# Altium schematic symbol library SCH - SOC - AMD - XILINX XC7Z020CLG484.SchLib: 1 symbol
Pins are listed as number, name and electrical type; pins without a type are passive.

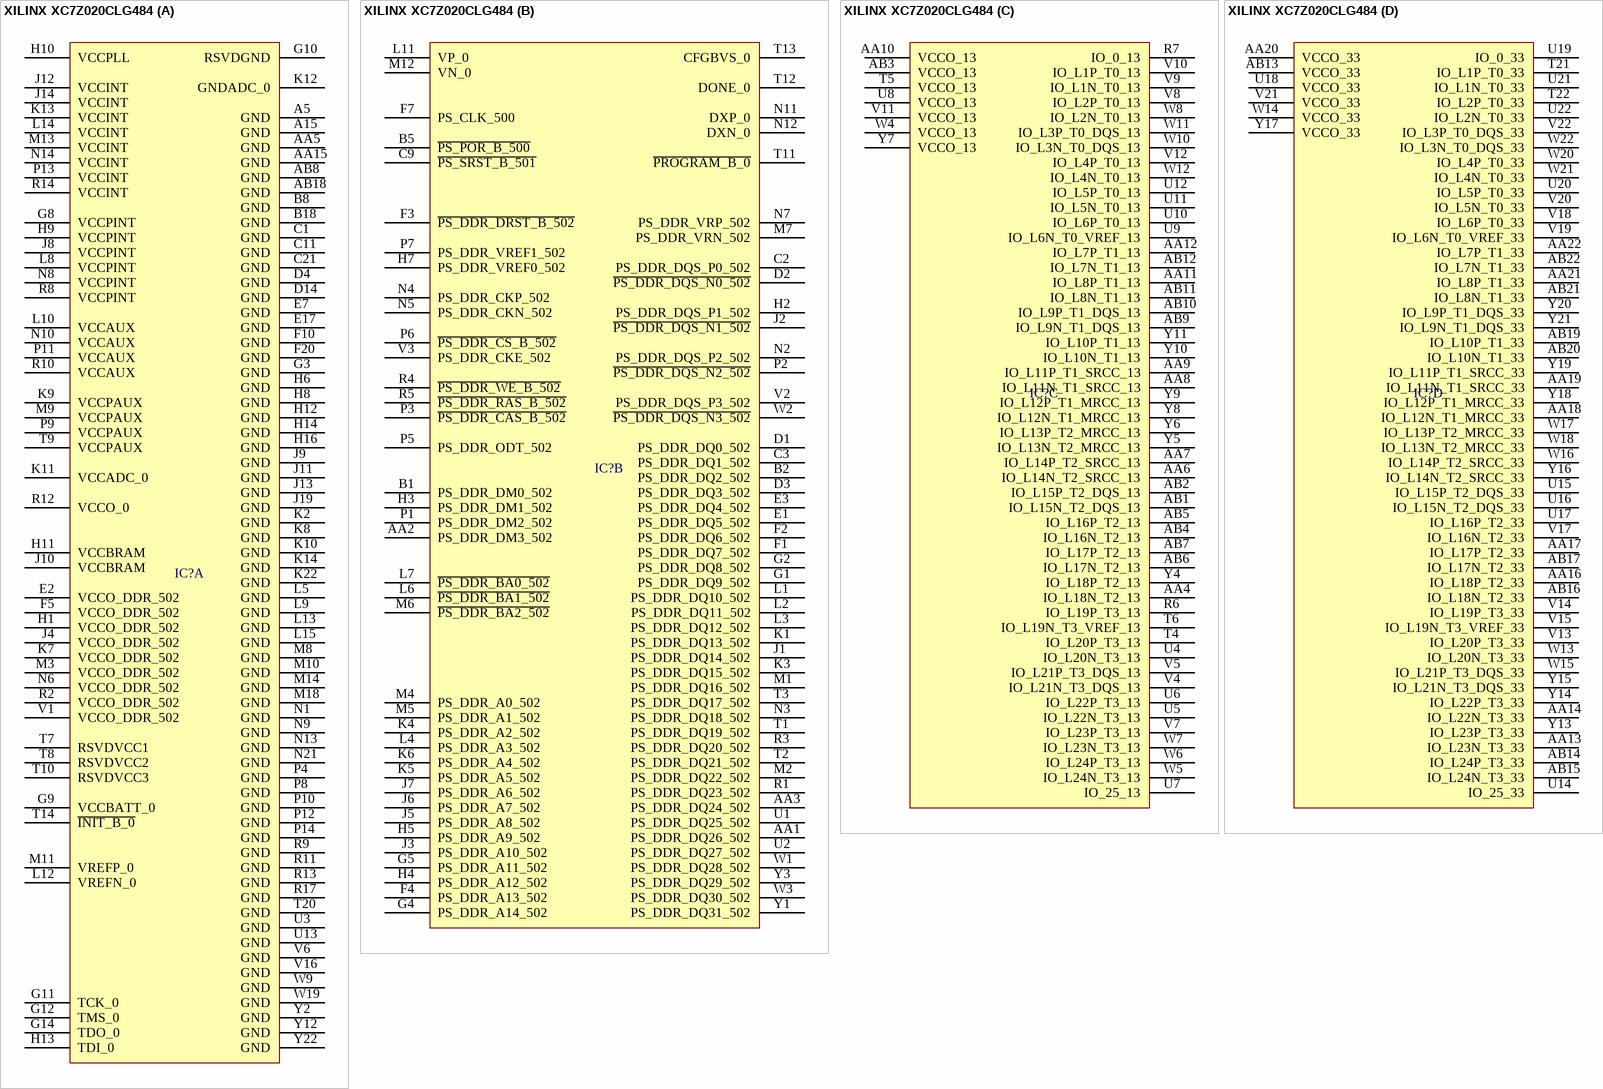
[diagram p0: symbol XILINX XC7Z020CLG484]

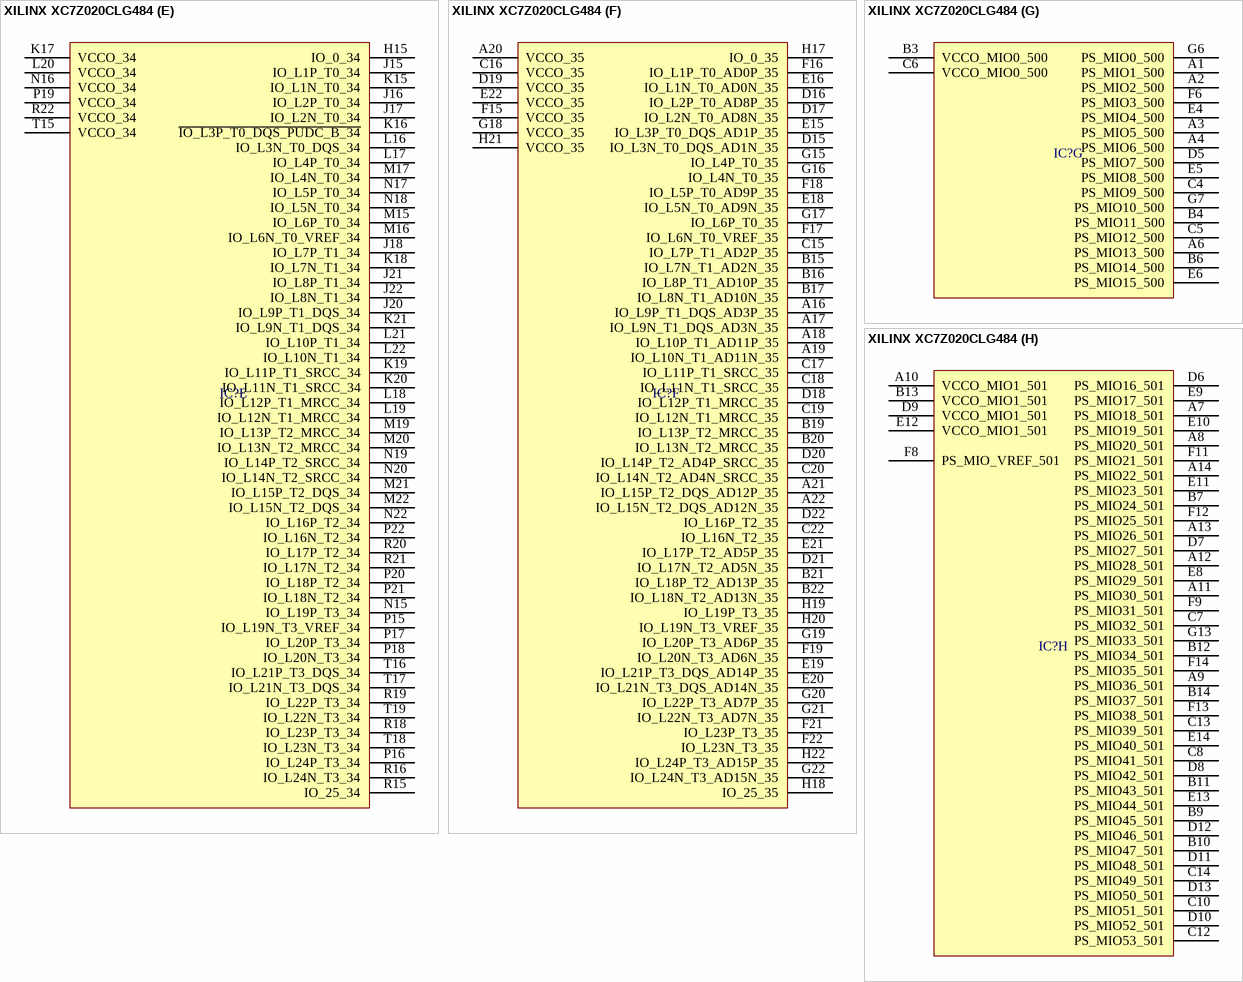
[diagram p1: symbol XILINX XC7Z020CLG484]

## XILINX XC7Z020CLG484
designator IC?
part A pins: A5 GND, A15 GND, AA5 GND, AA15 GND, AB8 GND, AB18 GND, B8 GND, B18 GND, C1 GND, C11 GND, C21 GND, D4 GND, D14 GND, E2 VCCO_DDR_502, E7 GND, E17 GND, F5 VCCO_DDR_502, F10 GND, F20 GND, G3 GND, G8 VCCPINT, G9 VCCBATT_0, G10 RSVDGND, G11 TCK_0, G12 TMS_0, G14 TDO_0, H1 VCCO_DDR_502, H6 GND, H8 GND, H9 VCCPINT, H10 VCCPLL, H11 VCCBRAM, H12 GND, H13 TDI_0, H14 GND, H16 GND, J4 VCCO_DDR_502, J8 VCCPINT, J9 GND, J10 VCCBRAM, J11 GND, J12 VCCINT, J13 GND, J14 VCCINT, J19 GND, K2 GND, K7 VCCO_DDR_502, K8 GND, K9 VCCPAUX, K10 GND, K11 VCCADC_0, K12 GNDADC_0, K13 VCCINT, K14 GND, K22 GND, L5 GND, L8 VCCPINT, L9 GND, L10 VCCAUX, L12 VREFN_0, L13 GND, L14 VCCINT, L15 GND, M3 VCCO_DDR_502, M8 GND, M9 VCCPAUX, M10 GND, M11 VREFP_0, M13 VCCINT, M14 GND, M18 GND, N1 GND, N6 VCCO_DDR_502, N8 VCCPINT, N9 GND, N10 VCCAUX, N13 GND, N14 VCCINT, N21 GND, P4 GND, P8 GND, P9 VCCPAUX, P10 GND, P11 VCCAUX, P12 GND, P13 VCCINT, P14 GND, R2 VCCO_DDR_502, R8 VCCPINT, R9 GND, R10 VCCAUX, R11 GND, R12 VCCO_0, R13 GND, R14 VCCINT, R17 GND, T7 RSVDVCC1, T8 RSVDVCC2, T9 VCCPAUX, T10 RSVDVCC3, T14 ~{INIT_B_0}, T20 GND, U3 GND, U13 GND, V1 VCCO_DDR_502, V6 GND, V16 GND, W9 GND, W19 GND, Y2 GND, Y12 GND, Y22 GND
part B pins: AA1 PS_DDR_DQ26_502, AA2 PS_DDR_DM3_502, AA3 PS_DDR_DQ24_502, B1 PS_DDR_DM0_502, B2 PS_DDR_DQ2_502, B5 ~{PS_POR_B_500}, C2 PS_DDR_DQS_P0_502, C3 PS_DDR_DQ1_502, C9 ~{PS_SRST_B_501}, D1 PS_DDR_DQ0_502, D2 ~{PS_DDR_DQS_N0_502}, D3 PS_DDR_DQ3_502, E1 PS_DDR_DQ5_502, E3 PS_DDR_DQ4_502, F1 PS_DDR_DQ7_502, F2 PS_DDR_DQ6_502, F3 ~{PS_DDR_DRST_B_502}, F4 PS_DDR_A13_502, F7 PS_CLK_500, G1 PS_DDR_DQ9_502, G2 PS_DDR_DQ8_502, G4 PS_DDR_A14_502, G5 PS_DDR_A11_502, H2 PS_DDR_DQS_P1_502, H3 PS_DDR_DM1_502, H4 PS_DDR_A12_502, H5 PS_DDR_A9_502, H7 PS_DDR_VREF0_502, J1 PS_DDR_DQ14_502, J2 ~{PS_DDR_DQS_N1_502}, J3 PS_DDR_A10_502, J5 PS_DDR_A8_502, J6 PS_DDR_A7_502, J7 PS_DDR_A6_502, K1 PS_DDR_DQ13_502, K3 PS_DDR_DQ15_502, K4 PS_DDR_A2_502, K5 PS_DDR_A5_502, K6 PS_DDR_A4_502, L1 PS_DDR_DQ10_502, L2 PS_DDR_DQ11_502, L3 PS_DDR_DQ12_502, L4 PS_DDR_A3_502, L6 ~{PS_DDR_BA1_502}, L7 ~{PS_DDR_BA0_502}, L11 VP_0, M1 PS_DDR_DQ16_502, M2 PS_DDR_DQ22_502, M4 PS_DDR_A0_502, M5 PS_DDR_A1_502, M6 ~{PS_DDR_BA2_502}, M7 PS_DDR_VRN_502, M12 VN_0, N2 PS_DDR_DQS_P2_502, N3 PS_DDR_DQ18_502, N4 PS_DDR_CKP_502, N5 PS_DDR_CKN_502, N7 PS_DDR_VRP_502, N11 DXP_0, N12 DXN_0, P1 PS_DDR_DM2_502, P2 ~{PS_DDR_DQS_N2_502}, P3 ~{PS_DDR_CAS_B_502}, P5 PS_DDR_ODT_502, P6 ~{PS_DDR_CS_B_502}, P7 PS_DDR_VREF1_502, R1 PS_DDR_DQ23_502, R3 PS_DDR_DQ20_502, R4 ~{PS_DDR_WE_B_502}, R5 ~{PS_DDR_RAS_B_502}, T1 PS_DDR_DQ19_502, T2 PS_DDR_DQ21_502, T3 PS_DDR_DQ17_502, T11 ~{PROGRAM_B_0}, T12 DONE_0, T13 CFGBVS_0, U1 PS_DDR_DQ25_502, U2 PS_DDR_DQ27_502, V2 PS_DDR_DQS_P3_502, V3 PS_DDR_CKE_502, W1 PS_DDR_DQ28_502, W2 ~{PS_DDR_DQS_N3_502}, W3 PS_DDR_DQ30_502, Y1 PS_DDR_DQ31_502, Y3 PS_DDR_DQ29_502
part C pins: AA4 IO_L18N_T2_13, AA6 IO_L14N_T2_SRCC_13, AA7 IO_L14P_T2_SRCC_13, AA8 IO_L11N_T1_SRCC_13, AA9 IO_L11P_T1_SRCC_13, AA10 VCCO_13, AA11 IO_L8P_T1_13, AA12 IO_L7P_T1_13, AB1 IO_L15N_T2_DQS_13, AB2 IO_L15P_T2_DQS_13, AB3 VCCO_13, AB4 IO_L16N_T2_13, AB5 IO_L16P_T2_13, AB6 IO_L17N_T2_13, AB7 IO_L17P_T2_13, AB9 IO_L9N_T1_DQS_13, AB10 IO_L9P_T1_DQS_13, AB11 IO_L8N_T1_13, AB12 IO_L7N_T1_13, R6 IO_L19P_T3_13, R7 IO_0_13, T4 IO_L20P_T3_13, T5 VCCO_13, T6 IO_L19N_T3_VREF_13, U4 IO_L20N_T3_13, U5 IO_L22N_T3_13, U6 IO_L22P_T3_13, U7 IO_25_13, U8 VCCO_13, U9 IO_L6N_T0_VREF_13, U10 IO_L6P_T0_13, U11 IO_L5N_T0_13, U12 IO_L5P_T0_13, V4 IO_L21N_T3_DQS_13, V5 IO_L21P_T3_DQS_13, V7 IO_L23P_T3_13, V8 IO_L2P_T0_13, V9 IO_L1N_T0_13, V10 IO_L1P_T0_13, V11 VCCO_13, V12 IO_L4P_T0_13, W4 VCCO_13, W5 IO_L24N_T3_13, W6 IO_L24P_T3_13, W7 IO_L23N_T3_13, W8 IO_L2N_T0_13, W10 IO_L3N_T0_DQS_13, W11 IO_L3P_T0_DQS_13, W12 IO_L4N_T0_13, Y4 IO_L18P_T2_13, Y5 IO_L13N_T2_MRCC_13, Y6 IO_L13P_T2_MRCC_13, Y7 VCCO_13, Y8 IO_L12N_T1_MRCC_13, Y9 IO_L12P_T1_MRCC_13, Y10 IO_L10N_T1_13, Y11 IO_L10P_T1_13
part D pins: AA13 IO_L23N_T3_33, AA14 IO_L22N_T3_33, AA16 IO_L18P_T2_33, AA17 IO_L17P_T2_33, AA18 IO_L12N_T1_MRCC_33, AA19 IO_L11N_T1_SRCC_33, AA20 VCCO_33, AA21 IO_L8P_T1_33, AA22 IO_L7P_T1_33, AB13 VCCO_33, AB14 IO_L24P_T3_33, AB15 IO_L24N_T3_33, AB16 IO_L18N_T2_33, AB17 IO_L17N_T2_33, AB19 IO_L10P_T1_33, AB20 IO_L10N_T1_33, AB21 IO_L8N_T1_33, AB22 IO_L7N_T1_33, T21 IO_L1P_T0_33, T22 IO_L2P_T0_33, U14 IO_25_33, U15 IO_L15P_T2_DQS_33, U16 IO_L15N_T2_DQS_33, U17 IO_L16P_T2_33, U18 VCCO_33, U19 IO_0_33, U20 IO_L5P_T0_33, U21 IO_L1N_T0_33, U22 IO_L2N_T0_33, V13 IO_L20P_T3_33, V14 IO_L19P_T3_33, V15 IO_L19N_T3_VREF_33, V17 IO_L16N_T2_33, V18 IO_L6P_T0_33, V19 IO_L6N_T0_VREF_33, V20 IO_L5N_T0_33, V21 VCCO_33, V22 IO_L3P_T0_DQS_33, W13 IO_L20N_T3_33, W14 VCCO_33, W15 IO_L21P_T3_DQS_33, W16 IO_L14P_T2_SRCC_33, W17 IO_L13P_T2_MRCC_33, W18 IO_L13N_T2_MRCC_33, W20 IO_L4P_T0_33, W21 IO_L4N_T0_33, W22 IO_L3N_T0_DQS_33, Y13 IO_L23P_T3_33, Y14 IO_L22P_T3_33, Y15 IO_L21N_T3_DQS_33, Y16 IO_L14N_T2_SRCC_33, Y17 VCCO_33, Y18 IO_L12P_T1_MRCC_33, Y19 IO_L11P_T1_SRCC_33, Y20 IO_L9P_T1_DQS_33, Y21 IO_L9N_T1_DQS_33
part E pins: H15 IO_0_34, J15 IO_L1P_T0_34, J16 IO_L2P_T0_34, J17 IO_L2N_T0_34, J18 IO_L7P_T1_34, J20 IO_L9P_T1_DQS_34, J21 IO_L8P_T1_34, J22 IO_L8N_T1_34, K15 IO_L1N_T0_34, K16 ~{IO_L3P_T0_DQS_PUDC_B_34}, K17 VCCO_34, K18 IO_L7N_T1_34, K19 IO_L11P_T1_SRCC_34, K20 IO_L11N_T1_SRCC_34, K21 IO_L9N_T1_DQS_34, L16 IO_L3N_T0_DQS_34, L17 IO_L4P_T0_34, L18 IO_L12P_T1_MRCC_34, L19 IO_L12N_T1_MRCC_34, L20 VCCO_34, L21 IO_L10P_T1_34, L22 IO_L10N_T1_34, M15 IO_L6P_T0_34, M16 IO_L6N_T0_VREF_34, M17 IO_L4N_T0_34, M19 IO_L13P_T2_MRCC_34, M20 IO_L13N_T2_MRCC_34, M21 IO_L15P_T2_DQS_34, M22 IO_L15N_T2_DQS_34, N15 IO_L19P_T3_34, N16 VCCO_34, N17 IO_L5P_T0_34, N18 IO_L5N_T0_34, N19 IO_L14P_T2_SRCC_34, N20 IO_L14N_T2_SRCC_34, N22 IO_L16P_T2_34, P15 IO_L19N_T3_VREF_34, P16 IO_L24P_T3_34, P17 IO_L20P_T3_34, P18 IO_L20N_T3_34, P19 VCCO_34, P20 IO_L18P_T2_34, P21 IO_L18N_T2_34, P22 IO_L16N_T2_34, R15 IO_25_34, R16 IO_L24N_T3_34, R18 IO_L23P_T3_34, R19 IO_L22P_T3_34, R20 IO_L17P_T2_34, R21 IO_L17N_T2_34, R22 VCCO_34, T15 VCCO_34, T16 IO_L21P_T3_DQS_34, T17 IO_L21N_T3_DQS_34, T18 IO_L23N_T3_34, T19 IO_L22N_T3_34
part F pins: A16 IO_L9P_T1_DQS_AD3P_35, A17 IO_L9N_T1_DQS_AD3N_35, A18 IO_L10P_T1_AD11P_35, A19 IO_L10N_T1_AD11N_35, A20 VCCO_35, A21 IO_L15P_T2_DQS_AD12P_35, A22 IO_L15N_T2_DQS_AD12N_35, B15 IO_L7N_T1_AD2N_35, B16 IO_L8P_T1_AD10P_35, B17 IO_L8N_T1_AD10N_35, B19 IO_L13P_T2_MRCC_35, B20 IO_L13N_T2_MRCC_35, B21 IO_L18P_T2_AD13P_35, B22 IO_L18N_T2_AD13N_35, C15 IO_L7P_T1_AD2P_35, C16 VCCO_35, C17 IO_L11P_T1_SRCC_35, C18 IO_L11N_T1_SRCC_35, C19 IO_L12N_T1_MRCC_35, C20 IO_L14N_T2_AD4N_SRCC_35, C22 IO_L16N_T2_35, D15 IO_L3N_T0_DQS_AD1N_35, D16 IO_L2P_T0_AD8P_35, D17 IO_L2N_T0_AD8N_35, D18 IO_L12P_T1_MRCC_35, D19 VCCO_35, D20 IO_L14P_T2_AD4P_SRCC_35, D21 IO_L17N_T2_AD5N_35, D22 IO_L16P_T2_35, E15 IO_L3P_T0_DQS_AD1P_35, E16 IO_L1N_T0_AD0N_35, E18 IO_L5N_T0_AD9N_35, E19 IO_L21P_T3_DQS_AD14P_35, E20 IO_L21N_T3_DQS_AD14N_35, E21 IO_L17P_T2_AD5P_35, E22 VCCO_35, F15 VCCO_35, F16 IO_L1P_T0_AD0P_35, F17 IO_L6N_T0_VREF_35, F18 IO_L5P_T0_AD9P_35, F19 IO_L20N_T3_AD6N_35, F21 IO_L23P_T3_35, F22 IO_L23N_T3_35, G15 IO_L4P_T0_35, G16 IO_L4N_T0_35, G17 IO_L6P_T0_35, G18 VCCO_35, G19 IO_L20P_T3_AD6P_35, G20 IO_L22P_T3_AD7P_35, G21 IO_L22N_T3_AD7N_35, G22 IO_L24N_T3_AD15N_35, H17 IO_0_35, H18 IO_25_35, H19 IO_L19P_T3_35, H20 IO_L19N_T3_VREF_35, H21 VCCO_35, H22 IO_L24P_T3_AD15P_35
part G pins: A1 PS_MIO1_500, A2 PS_MIO2_500, A3 PS_MIO5_500, A4 PS_MIO6_500, A6 PS_MIO13_500, B3 VCCO_MIO0_500, B4 PS_MIO11_500, B6 PS_MIO14_500, C4 PS_MIO9_500, C5 PS_MIO12_500, C6 VCCO_MIO0_500, D5 PS_MIO7_500, E4 PS_MIO4_500, E5 PS_MIO8_500, E6 PS_MIO15_500, F6 PS_MIO3_500, G6 PS_MIO0_500, G7 PS_MIO10_500
part H pins: A7 PS_MIO18_501, A8 PS_MIO20_501, A9 PS_MIO36_501, A10 VCCO_MIO1_501, A11 PS_MIO30_501, A12 PS_MIO28_501, A13 PS_MIO26_501, A14 PS_MIO22_501, B7 PS_MIO24_501, B9 PS_MIO45_501, B10 PS_MIO47_501, B11 PS_MIO43_501, B12 PS_MIO34_501, B13 VCCO_MIO1_501, B14 PS_MIO37_501, C7 PS_MIO32_501, C8 PS_MIO41_501, C10 PS_MIO51_501, C12 PS_MIO53_501, C13 PS_MIO39_501, C14 PS_MIO49_501, D6 PS_MIO16_501, D7 PS_MIO27_501, D8 PS_MIO42_501, D9 VCCO_MIO1_501, D10 PS_MIO52_501, D11 PS_MIO48_501, D12 PS_MIO46_501, D13 PS_MIO50_501, E8 PS_MIO29_501, E9 PS_MIO17_501, E10 PS_MIO19_501, E11 PS_MIO23_501, E12 VCCO_MIO1_501, E13 PS_MIO44_501, E14 PS_MIO40_501, F8 PS_MIO_VREF_501, F9 PS_MIO31_501, F11 PS_MIO21_501, F12 PS_MIO25_501, F13 PS_MIO38_501, F14 PS_MIO35_501, G13 PS_MIO33_501